# Altium schematic symbol library SCH - CONNECTORS - HARWIN M50-3120445.SCHLIB: 1 symbol
Pins are listed as number, name and electrical type; pins without a type are passive.

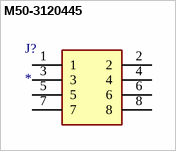
[diagram p0: symbol M50-3120445]

## M50-3120445
designator J?
Header & Wire Housing 4*4 SMD socket; Manufacturer_Name: Harwin; Manufacturer_Part_Number: M50-3120445; Description: CONN RCPT 8POS 0.05 GOLD SMD; Height: 3.8mm
pins: 1, 2, 3, 4, 5, 6, 7, 8